# Altium integrated library Capasitors.IntLib: 12 symbols
Pins are listed as number, name and electrical type; pins without a type are passive.

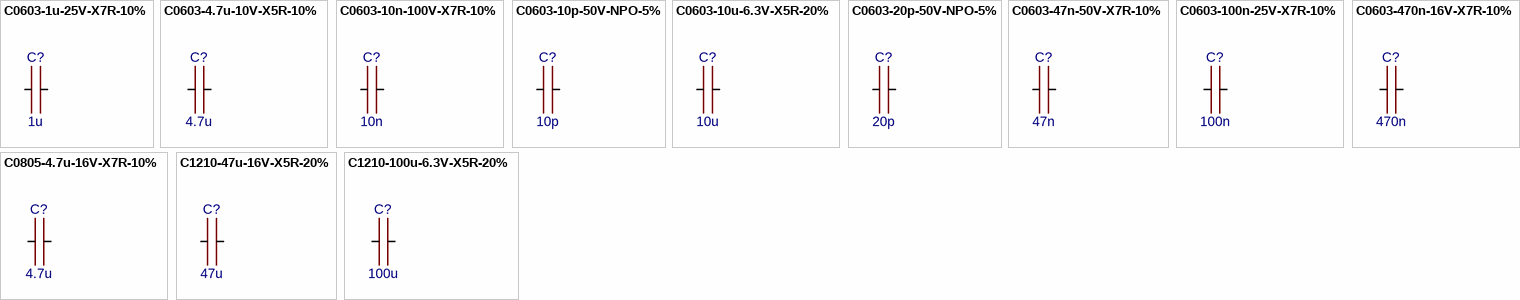
[diagram p0: symbols C0603-1u-25V-X7R-10% to C1210-100u-6.3V-X5R-20%]

## C0603-1u-25V-X7R-10%
designator C?, comment 1u
GRM188R71E105KA12D
footprint CAPC1608X09N (Chip Capacitor, 2-Leads, Body 1,60x0,80mm, IPC Medium Density)
pins: 1, 2

## C0603-4.7u-10V-X5R-10%
designator C?, comment 4.7u
GRM188R61A475K
footprint CAPC1608X09N (Chip Capacitor, 2-Leads, Body 1,60x0,80mm, IPC Medium Density)
pins: 1, 2

## C0603-10n-100V-X7R-10%
designator C?, comment 10n
GRM188R72A103KA01D
footprint CAPC1608X09N (Chip Capacitor, 2-Leads, Body 1,60x0,80mm, IPC Medium Density)
pins: 1, 2

## C0603-10p-50V-NPO-5%
designator C?, comment 10p
GRM1885C1H100JA01D
footprint CAPC1608X09N (Chip Capacitor, 2-Leads, Body 1,60x0,80mm, IPC Medium Density)
pins: 1, 2

## C0603-10u-6.3V-X5R-20%
designator C?, comment 10u
GRM188R60J106ME47D
footprint CAPC1608X09N (Chip Capacitor, 2-Leads, Body 1,60x0,80mm, IPC Medium Density)
pins: 1, 2

## C0603-20p-50V-NPO-5%
designator C?, comment 20p
GRM1885C1H200J
footprint CAPC1608X09N (Chip Capacitor, 2-Leads, Body 1,60x0,80mm, IPC Medium Density)
pins: 1, 2

## C0603-47n-50V-X7R-10%
designator C?, comment 47n
GRM188R71H473KA61D
footprint CAPC1608X09N (Chip Capacitor, 2-Leads, Body 1,60x0,80mm, IPC Medium Density)
pins: 1, 2

## C0603-100n-25V-X7R-10%
designator C?, comment 100n
GRM188R71E104KA01D
footprint CAPC1608X09N (Chip Capacitor, 2-Leads, Body 1,60x0,80mm, IPC Medium Density)
pins: 1, 2

## C0603-470n-16V-X7R-10%
designator C?, comment 470n
GRM188R71C474KA88D
footprint CAPC1608X09N (Chip Capacitor, 2-Leads, Body 1,60x0,80mm, IPC Medium Density)
pins: 1, 2

## C0805-4.7u-16V-X7R-10%
designator C?, comment 4.7u
GRM21BR71C475KA73L
footprint CAPC2012X12N (Chip Capacitor, 2-Leads, Body 2,00x1,25mm, IPC Medium Density)
pins: 1, 2

## C1210-47u-16V-X5R-20%
designator C?, comment 47u
GRM32ER61C476KE15L
footprint CAPC3225X17N (Chip Capacitor, 2-Leads, Body 3,20x2,50mm, IPC Medium Density)
pins: 1, 2

## C1210-100u-6.3V-X5R-20%
designator C?, comment 100u
GRM32ER60J107ME20L
footprint CAPC3225X17N (Chip Capacitor, 2-Leads, Body 3,20x2,50mm, IPC Medium Density)
pins: 1, 2